# EAGLE library part A4931 (library ee192)
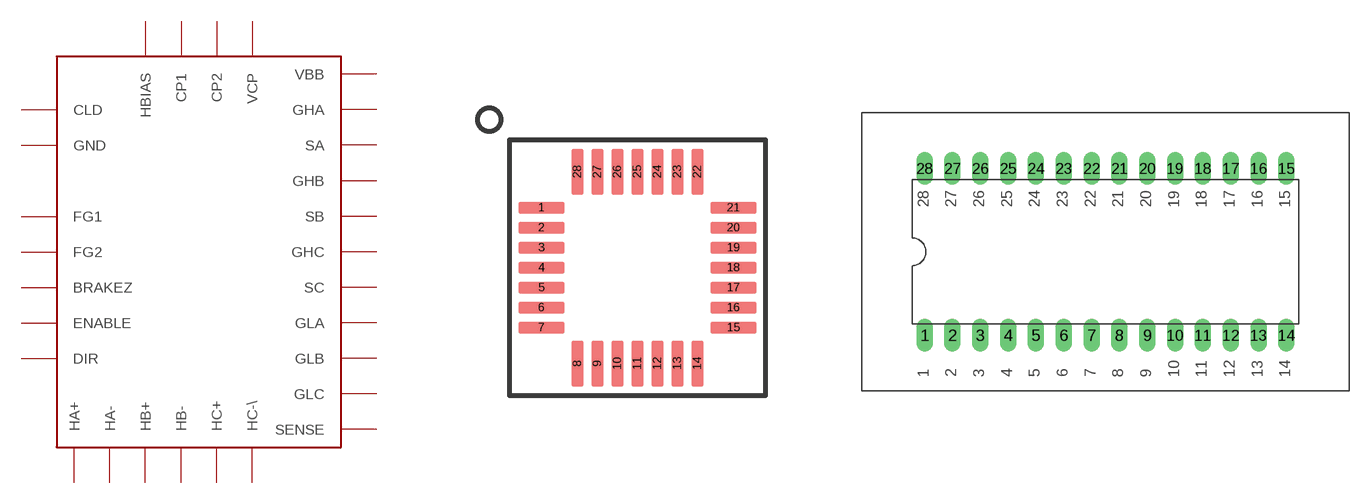
[diagram p6: symbol with the pads of 28-CONTACT-QFN-ET; footprints 28-CONTACT-QFN-ET, DIL28-6]

Designator prefix -

## A4931SMT  [28-CONTACT-QFN-ET]
1  HA+
2  HA-
3  HB+
4  HB-
5  HC+
6  HC-\
7  GND
8  HBIAS
9  CP1
10  CP2
11  VBB
12  VCP
13  SENSE
14  GLC
15  GLB
16  GLA
17  GHC
18  SC
19  GHB
20  SB
21  GHA
22  SA
23  FG1
24  FG2
25  CLD
26  DIR
27  ENABLE
28  BRAKEZ

## A4931CUSTOM_DIP_ADAPTER  [DIL28-6]
Pads as for 28-CONTACT-QFN-ET

## A4931COMMERCIAL_DIP_ADAPTER  [DIL28-3]
Pads as for 28-CONTACT-QFN-ET

## Footprint 28-CONTACT-QFN-ET (pad centres in mm)
a 28-pin QFN.. .5mm spacing. For A4931.
smd 1.15 x 0.3: 1 -2.4,1.5; 2 -2.4,1; 3 -2.4,0.5; 4 -2.4,0; 5 -2.4,-0.5; 6 -2.4,-1; 7 -2.4,-1.5; 15 2.4,-1.5; 16 2.4,-1; 17 2.4,-0.5; 18 2.4,0; 19 2.4,0.5; 20 2.4,1; 21 2.4,1.5
smd 0.3 x 1.15: 8 -1.5,-2.4; 9 -1,-2.4; 10 -0.5,-2.4; 11 0,-2.4; 12 0.5,-2.4; 13 1,-2.4; 14 1.5,-2.4; 22 1.5,2.4; 23 1,2.4; 24 0.5,2.4; 25 0,2.4; 26 -0.5,2.4; 27 -1,2.4; 28 -1.5,2.4

## Footprint DIL28-6 (pad centres in mm)
Breakout for the A4931. Dual In Line Package, 0.6 inch
drill 1 long: 1 -16.51,-7.62; 2 -13.97,-7.62; 3 -11.43,-7.62; 4 -8.89,-7.62; 5 -6.35,-7.62; 6 -3.81,-7.62; 7 -1.27,-7.62; 8 1.27,-7.62; 9 3.81,-7.62; 10 6.35,-7.62; 11 8.89,-7.62; 12 11.43,-7.62; 13 13.97,-7.62; 14 16.51,-7.62; 15 16.51,7.62; 16 13.97,7.62; 17 11.43,7.62; 18 8.89,7.62; 19 6.35,7.62; 20 3.81,7.62; 21 1.27,7.62; 22 -1.27,7.62; 23 -3.81,7.62; 24 -6.35,7.62; 25 -8.89,7.62; 26 -11.43,7.62; 27 -13.97,7.62; 28 -16.51,7.62

## Footprint DIL28-3 (pad centres in mm)
Dual In Line Package Small
drill 1 long: 1 -16.51,-3.81; 2 -13.97,-3.81; 3 -11.43,-3.81; 4 -8.89,-3.81; 5 -6.35,-3.81; 6 -3.81,-3.81; 7 -1.27,-3.81; 8 1.27,-3.81; 9 3.81,-3.81; 10 6.35,-3.81; 11 8.89,-3.81; 12 11.43,-3.81; 13 13.97,-3.81; 14 16.51,-3.81; 15 16.51,3.81; 16 13.97,3.81; 17 11.43,3.81; 18 8.89,3.81; 19 6.35,3.81; 20 3.81,3.81; 21 1.27,3.81; 22 -1.27,3.81; 23 -3.81,3.81; 24 -6.35,3.81; 25 -8.89,3.81; 26 -11.43,3.81; 27 -13.97,3.81; 28 -16.51,3.81